# Altium schematic symbol library kmilo17pet-TI_LDO_0_350.SchLib: 1649 symbols (part 21 of 66)
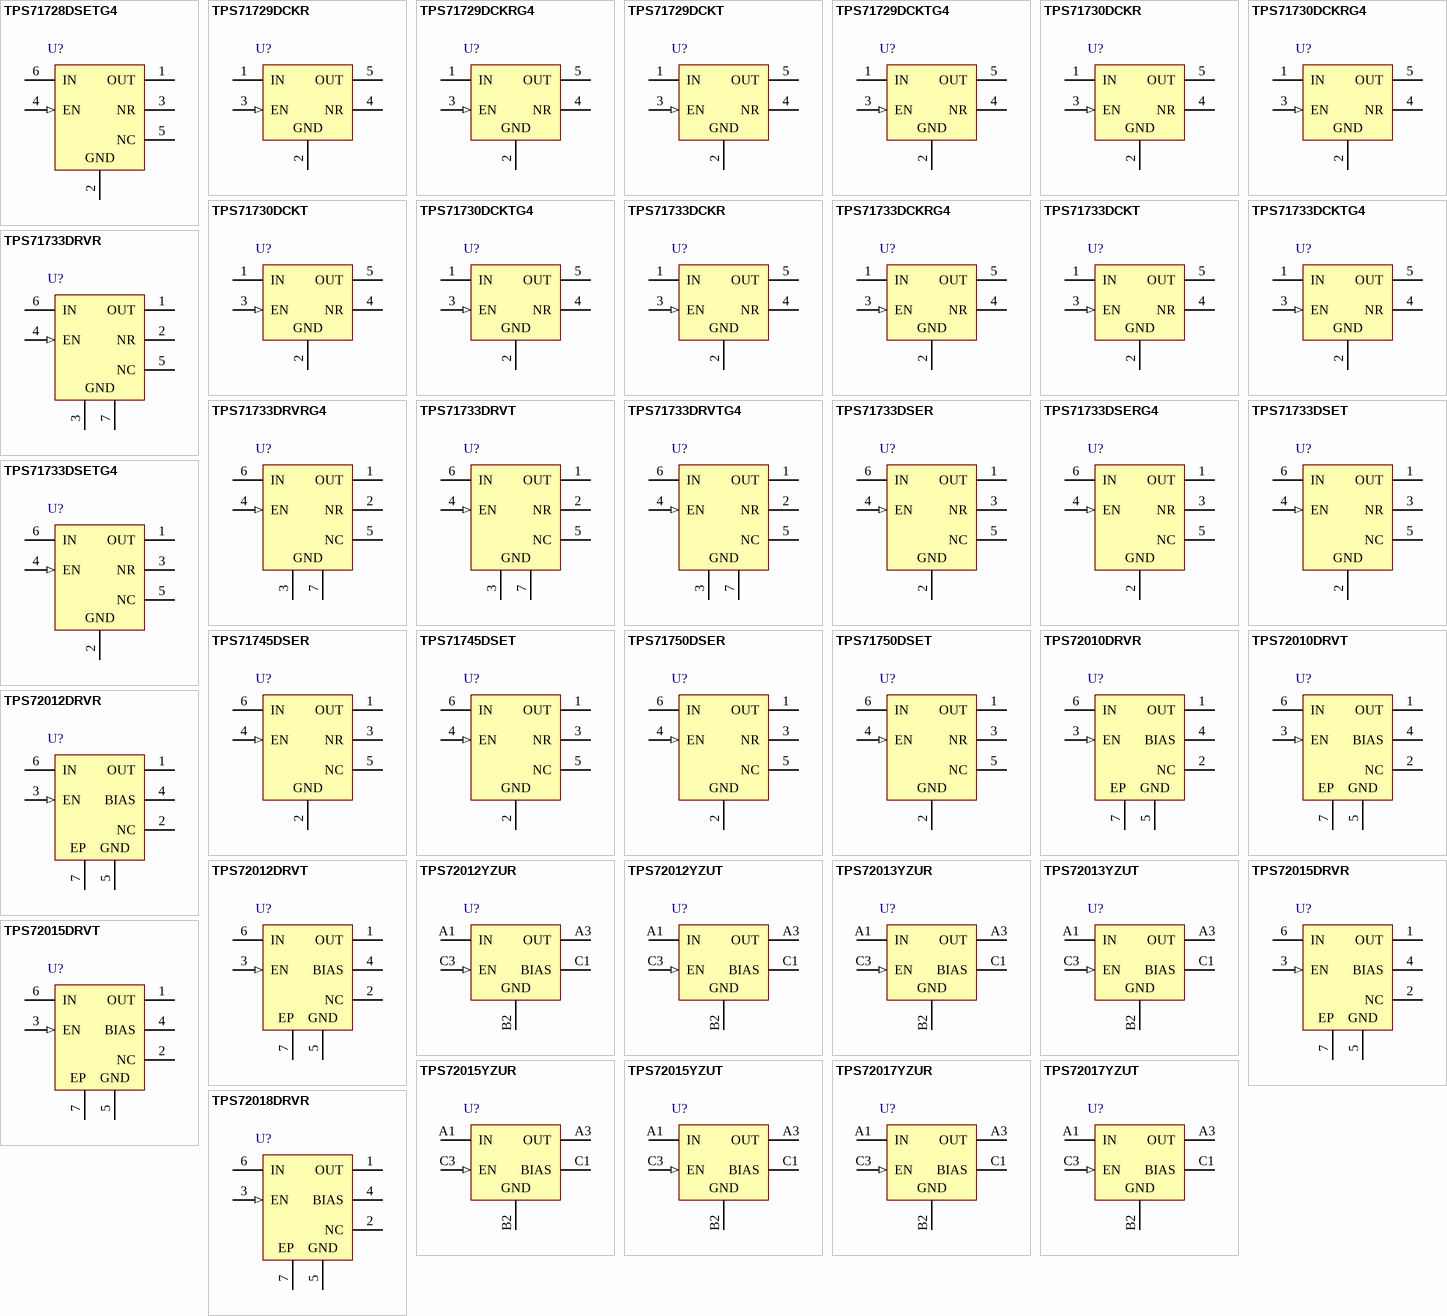
[diagram p62: symbols TPS71728DSETG4 to TPS72018DRVR]

## TPS71733DCKR
designator U?
Single Output High PSRR LDO, 150 mA, Fixed 3.3 V Output, 2.5 to 6.5 V Input, with Low IQ, 5-pin SC70 (DCK), -40 to 85 degC, Green (RoHS & no Sb/Br); Manufacturer: Texas Instruments; PartNumber: TPS71733DCKR; Accuracy(%): 3; Fixed Output Options(V): 3.3; Iout(Max)(A): 0.15; Iq(Typ)(mA): 0.05; SubFamily: Single Channel LDO; Vdo(Typ)(mV): 170; Vin(Max)(V): 6.5; Vin(Min)(V): 2.5; DatasheetVersion: SBVS068G; PackageVersion: 4093553-3/G; PackageReference: DCK5; PackageDescription: 5-Pin Plastic Small-Outline, Body 2 x 1.25 mm, Pitch 0.65 mm; Supplier 1: Digi-Key; Supplier Part Number 1: 296-19675-2-ND; Supplier 2: Digi-Key; Supplier Part Number 2: 296-19675-1-ND; Supplier 3: Digi-Key; Supplier Part Number 3: 296-19675-6-ND; Supplier 4: Farnell; Supplier Part Number 4: 2120472; Supplier 5: Newark; Supplier Part Number 5: 94T5104; Supplier 6: Newark; Supplier Part Number 6: 85K1732; Supplier 7: Mouser; Supplier Part Number 7: 595-TPS71733DCKR; Eco-Plan: Green (RoHS & no Sb/Br); Vout Adj(Max)(V): 3.3; Vout Adj(Min)(V): 3.3; Mounting Technology: Surface Mount; Code_JEDEC: MO-203; ComponentLink1Description: Manufacturer URL; ComponentLink1URL: http://www.ti.com/; ComponentLink2Description: Datasheet; ComponentLink2URL: http://www.ti.com/general/docs/lit/getliterature.tsp?genericPartNumber=TPS71733&fileType=pdf; ComponentLink3Description: Package Specification; ComponentLink3URL: http://www.ti.com/litv/pdf/mpds025f
footprint TI-DCK5_V (SOT23, 5-Leads, Body 2x1.25mm, Pitch 0.65mm)
pins: 1 IN (power) "Input supply.", 2 GND (power) "Ground.", 3 EN (in) "Driving the enable pin (EN) high turns on the regulator .Driving this pin low puts the regulator into shutdown mode.EN can be connected to IN if not used.", 4 NR "Fixed voltage versions only; connecting an external capacitor to this pin bypasses noise generated by the internal bandgap. This capacitor allows output noise to be reduced to very low levels.", 5 OUT (power) "Output for the regulator. A small capacitor (total typical capacitance >= 2.0uF ceramic) is needed from this pin to ground to assure stability."

## TPS71733DCKRG4
designator U?
Single Output High PSRR LDO, 150 mA, Fixed 3.3 V Output, 2.5 to 6.5 V Input, with Low IQ, 5-pin SC70 (DCK), -40 to 85 degC, Green (RoHS & no Sb/Br); Manufacturer: Texas Instruments; PartNumber: TPS71733DCKRG4; Accuracy(%): 3; Fixed Output Options(V): 3.3; Iout(Max)(A): 0.15; Iq(Typ)(mA): 0.05; SubFamily: Single Channel LDO; Vdo(Typ)(mV): 170; Vin(Max)(V): 6.5; Vin(Min)(V): 2.5; DatasheetVersion: SBVS068G; PackageVersion: 4093553-3/G; PackageReference: DCK5; PackageDescription: 5-Pin Plastic Small-Outline, Body 2 x 1.25 mm, Pitch 0.65 mm; Supplier 1: Digi-Key; Supplier Part Number 1: TPS71733DCKRG4-ND; Supplier 2: Mouser; Supplier Part Number 2: 595-TPS71733DCKRG4; Eco-Plan: Green (RoHS & no Sb/Br); Vout Adj(Max)(V): 3.3; Vout Adj(Min)(V): 3.3; Mounting Technology: Surface Mount; Code_JEDEC: MO-203; ComponentLink1Description: Manufacturer URL; ComponentLink1URL: http://www.ti.com/; ComponentLink2Description: Datasheet; ComponentLink2URL: http://www.ti.com/general/docs/lit/getliterature.tsp?genericPartNumber=TPS71733&fileType=pdf; ComponentLink3Description: Package Specification; ComponentLink3URL: http://www.ti.com/litv/pdf/mpds025f
footprint TI-DCK5_V (SOT23, 5-Leads, Body 2x1.25mm, Pitch 0.65mm)
pins: 1 IN (power) "Input supply.", 2 GND (power) "Ground.", 3 EN (in) "Driving the enable pin (EN) high turns on the regulator .Driving this pin low puts the regulator into shutdown mode.EN can be connected to IN if not used.", 4 NR "Fixed voltage versions only; connecting an external capacitor to this pin bypasses noise generated by the internal bandgap. This capacitor allows output noise to be reduced to very low levels.", 5 OUT (power) "Output for the regulator. A small capacitor (total typical capacitance >= 2.0uF ceramic) is needed from this pin to ground to assure stability."

## TPS71733DCKT
designator U?
Single Output High PSRR LDO, 150 mA, Fixed 3.3 V Output, 2.5 to 6.5 V Input, with Low IQ, 5-pin SC70 (DCK), -40 to 85 degC, Green (RoHS & no Sb/Br); Manufacturer: Texas Instruments; PartNumber: TPS71733DCKT; Accuracy(%): 3; Fixed Output Options(V): 3.3; Iout(Max)(A): 0.15; Iq(Typ)(mA): 0.05; SubFamily: Single Channel LDO; Vdo(Typ)(mV): 170; Vin(Max)(V): 6.5; Vin(Min)(V): 2.5; DatasheetVersion: SBVS068G; PackageVersion: 4093553-3/G; PackageReference: DCK5; PackageDescription: 5-Pin Plastic Small-Outline, Body 2 x 1.25 mm, Pitch 0.65 mm; Supplier 1: Digi-Key; Supplier Part Number 1: 296-27047-2-ND; Supplier 2: Digi-Key; Supplier Part Number 2: 296-27047-1-ND; Supplier 3: Digi-Key; Supplier Part Number 3: 296-27047-6-ND; Supplier 4: Newark; Supplier Part Number 4: 85K1734; Supplier 5: Mouser; Supplier Part Number 5: 595-TPS71733DCKT; Eco-Plan: Green (RoHS & no Sb/Br); Vout Adj(Max)(V): 3.3; Vout Adj(Min)(V): 3.3; Mounting Technology: Surface Mount; Code_JEDEC: MO-203; ComponentLink1Description: Manufacturer URL; ComponentLink1URL: http://www.ti.com/; ComponentLink2Description: Datasheet; ComponentLink2URL: http://www.ti.com/general/docs/lit/getliterature.tsp?genericPartNumber=TPS71733&fileType=pdf; ComponentLink3Description: Package Specification; ComponentLink3URL: http://www.ti.com/litv/pdf/mpds025f
footprint TI-DCK5_V (SOT23, 5-Leads, Body 2x1.25mm, Pitch 0.65mm)
pins: 1 IN (power) "Input supply.", 2 GND (power) "Ground.", 3 EN (in) "Driving the enable pin (EN) high turns on the regulator .Driving this pin low puts the regulator into shutdown mode.EN can be connected to IN if not used.", 4 NR "Fixed voltage versions only; connecting an external capacitor to this pin bypasses noise generated by the internal bandgap. This capacitor allows output noise to be reduced to very low levels.", 5 OUT (power) "Output for the regulator. A small capacitor (total typical capacitance >= 2.0uF ceramic) is needed from this pin to ground to assure stability."

## TPS71733DCKTG4
designator U?
Single Output High PSRR LDO, 150 mA, Fixed 3.3 V Output, 2.5 to 6.5 V Input, with Low IQ, 5-pin SC70 (DCK), -40 to 85 degC, Green (RoHS & no Sb/Br); Manufacturer: Texas Instruments; PartNumber: TPS71733DCKTG4; Accuracy(%): 3; Fixed Output Options(V): 3.3; Iout(Max)(A): 0.15; Iq(Typ)(mA): 0.05; SubFamily: Single Channel LDO; Vdo(Typ)(mV): 170; Vin(Max)(V): 6.5; Vin(Min)(V): 2.5; DatasheetVersion: SBVS068G; PackageVersion: 4093553-3/G; PackageReference: DCK5; PackageDescription: 5-Pin Plastic Small-Outline, Body 2 x 1.25 mm, Pitch 0.65 mm; Supplier 1: Digi-Key; Supplier Part Number 1: TPS71733DCKTG4-ND; Supplier 2: Mouser; Supplier Part Number 2: 595-TPS71733DCKTG4; Eco-Plan: Green (RoHS & no Sb/Br); Vout Adj(Max)(V): 3.3; Vout Adj(Min)(V): 3.3; Mounting Technology: Surface Mount; Code_JEDEC: MO-203; ComponentLink1Description: Manufacturer URL; ComponentLink1URL: http://www.ti.com/; ComponentLink2Description: Datasheet; ComponentLink2URL: http://www.ti.com/general/docs/lit/getliterature.tsp?genericPartNumber=TPS71733&fileType=pdf; ComponentLink3Description: Package Specification; ComponentLink3URL: http://www.ti.com/litv/pdf/mpds025f
footprint TI-DCK5_V (SOT23, 5-Leads, Body 2x1.25mm, Pitch 0.65mm)
pins: 1 IN (power) "Input supply.", 2 GND (power) "Ground.", 3 EN (in) "Driving the enable pin (EN) high turns on the regulator .Driving this pin low puts the regulator into shutdown mode.EN can be connected to IN if not used.", 4 NR "Fixed voltage versions only; connecting an external capacitor to this pin bypasses noise generated by the internal bandgap. This capacitor allows output noise to be reduced to very low levels.", 5 OUT (power) "Output for the regulator. A small capacitor (total typical capacitance >= 2.0uF ceramic) is needed from this pin to ground to assure stability."

## TPS71733DRVR
designator U?
Single Output High PSRR LDO, 150 mA, Fixed 3.3 V Output, 2.5 to 6.5 V Input, with Low IQ, 6-pin SON (DRV), -40 to 85 degC, Green (RoHS & no Sb/Br); Manufacturer: Texas Instruments; PartNumber: TPS71733DRVR; Accuracy(%): 3; Fixed Output Options(V): 3.3; Iout(Max)(A): 0.15; Iq(Typ)(mA): 0.05; SubFamily: Single Channel LDO; Vdo(Typ)(mV): 170; Vin(Max)(V): 6.5; Vin(Min)(V): 2.5; DatasheetVersion: SBVS068G; PackageVersion: 4206925/E; PackageReference: DRV6-1600X1000TP; PackageDescription: 6-Pin Plastic Small Outline No-Lead, Body 2 x 2 mm, Pitch 0.65 mm; Supplier 1: Digi-Key; Supplier Part Number 1: TPS71733DRVR-ND; Supplier 2: Newark; Supplier Part Number 2: 10M0655; Supplier 3: Mouser; Supplier Part Number 3: 595-TPS71733DRVR; Eco-Plan: Green (RoHS & no Sb/Br); Vout Adj(Max)(V): 3.3; Vout Adj(Min)(V): 3.3; Mounting Technology: Surface Mount; ComponentLink1Description: Manufacturer URL; ComponentLink1URL: http://www.ti.com/; ComponentLink2Description: Datasheet; ComponentLink2URL: http://www.ti.com/general/docs/lit/getliterature.tsp?genericPartNumber=TPS71733&fileType=pdf; ComponentLink3Description: Package Specification; ComponentLink3URL: http://www.ti.com/litv/pdf/mpds216d
footprint TI-DRV6-1600X1000TP_V (SON, 6-Leads, Body 2x2mm, Pitch 0.65mm, Thermal Pad 1X1.6mm)
pins: 1 OUT (power) "Output of the regulator. A small capacitor (total typical capacitance >= 2.0uF ceramic) is needed from this pin to ground to assure stability.", 2 NR "Fixed voltage versions only; connecting an external capacitor to this pin bypasses noise generated by the internal bandgap. This allows output noise to be reduced to very low levels.", 3 GND (power) "Ground", 4 EN (in) "Driving the enable pin (EN) high turns on the regulator. Driving this pin low puts the regulator into shutdown mode. EN can be connected to IN if not used.", 5 NC "Not internally connected. This pin must either be left open, or tied to GND.", 6 IN (power) "Input supply.", 7 GND (power) "The pad must be tied to GND."

## TPS71733DRVRG4
designator U?
Single Output High PSRR LDO, 150 mA, Fixed 3.3 V Output, 2.5 to 6.5 V Input, with Low IQ, 6-pin SON (DRV), -40 to 85 degC, Green (RoHS & no Sb/Br); Manufacturer: Texas Instruments; PartNumber: TPS71733DRVRG4; Accuracy(%): 3; Fixed Output Options(V): 3.3; Iout(Max)(A): 0.15; Iq(Typ)(mA): 0.05; SubFamily: Single Channel LDO; Vdo(Typ)(mV): 170; Vin(Max)(V): 6.5; Vin(Min)(V): 2.5; DatasheetVersion: SBVS068G; PackageVersion: 4206925/E; PackageReference: DRV6-1600X1000TP; PackageDescription: 6-Pin Plastic Small Outline No-Lead, Body 2 x 2 mm, Pitch 0.65 mm; Supplier 1: Digi-Key; Supplier Part Number 1: TPS71733DRVRG4-ND; Supplier 2: Newark; Supplier Part Number 2: 10M0656; Supplier 3: Mouser; Supplier Part Number 3: 595-TPS71733DRVRG4; Eco-Plan: Green (RoHS & no Sb/Br); Vout Adj(Max)(V): 3.3; Vout Adj(Min)(V): 3.3; Mounting Technology: Surface Mount; ComponentLink1Description: Manufacturer URL; ComponentLink1URL: http://www.ti.com/; ComponentLink2Description: Datasheet; ComponentLink2URL: http://www.ti.com/general/docs/lit/getliterature.tsp?genericPartNumber=TPS71733&fileType=pdf; ComponentLink3Description: Package Specification; ComponentLink3URL: http://www.ti.com/litv/pdf/mpds216d
footprint TI-DRV6-1600X1000TP_V (SON, 6-Leads, Body 2x2mm, Pitch 0.65mm, Thermal Pad 1X1.6mm)
pins: 1 OUT (power) "Output of the regulator. A small capacitor (total typical capacitance >= 2.0uF ceramic) is needed from this pin to ground to assure stability.", 2 NR "Fixed voltage versions only; connecting an external capacitor to this pin bypasses noise generated by the internal bandgap. This allows output noise to be reduced to very low levels.", 3 GND (power) "Ground", 4 EN (in) "Driving the enable pin (EN) high turns on the regulator. Driving this pin low puts the regulator into shutdown mode. EN can be connected to IN if not used.", 5 NC "Not internally connected. This pin must either be left open, or tied to GND.", 6 IN (power) "Input supply.", 7 GND (power) "The pad must be tied to GND."

## TPS71733DRVT
designator U?
Single Output High PSRR LDO, 150 mA, Fixed 3.3 V Output, 2.5 to 6.5 V Input, with Low IQ, 6-pin SON (DRV), -40 to 85 degC, Green (RoHS & no Sb/Br); Manufacturer: Texas Instruments; PartNumber: TPS71733DRVT; Accuracy(%): 3; Fixed Output Options(V): 3.3; Iout(Max)(A): 0.15; Iq(Typ)(mA): 0.05; SubFamily: Single Channel LDO; Vdo(Typ)(mV): 170; Vin(Max)(V): 6.5; Vin(Min)(V): 2.5; DatasheetVersion: SBVS068G; PackageVersion: 4206925/E; PackageReference: DRV6-1600X1000TP; PackageDescription: 6-Pin Plastic Small Outline No-Lead, Body 2 x 2 mm, Pitch 0.65 mm; Supplier 1: Digi-Key; Supplier Part Number 1: 296-20695-2-ND; Supplier 2: Digi-Key; Supplier Part Number 2: 296-20695-1-ND; Supplier 3: Digi-Key; Supplier Part Number 3: 296-20695-6-ND; Supplier 4: Newark; Supplier Part Number 4: 10M0657; Supplier 5: Mouser; Supplier Part Number 5: 595-TPS71733DRVT; Eco-Plan: Green (RoHS & no Sb/Br); Vout Adj(Max)(V): 3.3; Vout Adj(Min)(V): 3.3; Mounting Technology: Surface Mount; ComponentLink1Description: Manufacturer URL; ComponentLink1URL: http://www.ti.com/; ComponentLink2Description: Datasheet; ComponentLink2URL: http://www.ti.com/general/docs/lit/getliterature.tsp?genericPartNumber=TPS71733&fileType=pdf; ComponentLink3Description: Package Specification; ComponentLink3URL: http://www.ti.com/litv/pdf/mpds216d
footprint TI-DRV6-1600X1000TP_V (SON, 6-Leads, Body 2x2mm, Pitch 0.65mm, Thermal Pad 1X1.6mm)
pins: 1 OUT (power) "Output of the regulator. A small capacitor (total typical capacitance >= 2.0uF ceramic) is needed from this pin to ground to assure stability.", 2 NR "Fixed voltage versions only; connecting an external capacitor to this pin bypasses noise generated by the internal bandgap. This allows output noise to be reduced to very low levels.", 3 GND (power) "Ground", 4 EN (in) "Driving the enable pin (EN) high turns on the regulator. Driving this pin low puts the regulator into shutdown mode. EN can be connected to IN if not used.", 5 NC "Not internally connected. This pin must either be left open, or tied to GND.", 6 IN (power) "Input supply.", 7 GND (power) "The pad must be tied to GND."

## TPS71733DRVTG4
designator U?
Single Output High PSRR LDO, 150 mA, Fixed 3.3 V Output, 2.5 to 6.5 V Input, with Low IQ, 6-pin SON (DRV), -40 to 85 degC, Green (RoHS & no Sb/Br); Manufacturer: Texas Instruments; PartNumber: TPS71733DRVTG4; Accuracy(%): 3; Fixed Output Options(V): 3.3; Iout(Max)(A): 0.15; Iq(Typ)(mA): 0.05; SubFamily: Single Channel LDO; Vdo(Typ)(mV): 170; Vin(Max)(V): 6.5; Vin(Min)(V): 2.5; DatasheetVersion: SBVS068G; PackageVersion: 4206925/E; PackageReference: DRV6-1600X1000TP; PackageDescription: 6-Pin Plastic Small Outline No-Lead, Body 2 x 2 mm, Pitch 0.65 mm; Supplier 1: Digi-Key; Supplier Part Number 1: TPS71733DRVTG4-ND; Supplier 2: Mouser; Supplier Part Number 2: 595-TPS71733DRVTG4; Eco-Plan: Green (RoHS & no Sb/Br); Vout Adj(Max)(V): 3.3; Vout Adj(Min)(V): 3.3; Mounting Technology: Surface Mount; ComponentLink1Description: Manufacturer URL; ComponentLink1URL: http://www.ti.com/; ComponentLink2Description: Datasheet; ComponentLink2URL: http://www.ti.com/general/docs/lit/getliterature.tsp?genericPartNumber=TPS71733&fileType=pdf; ComponentLink3Description: Package Specification; ComponentLink3URL: http://www.ti.com/litv/pdf/mpds216d
footprint TI-DRV6-1600X1000TP_V (SON, 6-Leads, Body 2x2mm, Pitch 0.65mm, Thermal Pad 1X1.6mm)
pins: 1 OUT (power) "Output of the regulator. A small capacitor (total typical capacitance >= 2.0uF ceramic) is needed from this pin to ground to assure stability.", 2 NR "Fixed voltage versions only; connecting an external capacitor to this pin bypasses noise generated by the internal bandgap. This allows output noise to be reduced to very low levels.", 3 GND (power) "Ground", 4 EN (in) "Driving the enable pin (EN) high turns on the regulator. Driving this pin low puts the regulator into shutdown mode. EN can be connected to IN if not used.", 5 NC "Not internally connected. This pin must either be left open, or tied to GND.", 6 IN (power) "Input supply.", 7 GND (power) "The pad must be tied to GND."

## TPS71733DSER
designator U?
Single Output High PSRR LDO, 150 mA, Fixed 3.3 V Output, 2.5 to 6.5 V Input, with Low IQ, 6-pin WSON (DSE), -40 to 125 degC, Green (RoHS & no Sb/Br); Manufacturer: Texas Instruments; PartNumber: TPS71733DSER; Accuracy(%): 3; Fixed Output Options(V): 3.3; Iout(Max)(A): 0.15; Iq(Typ)(mA): 0.05; SubFamily: Single Channel LDO; Vdo(Typ)(mV): 170; Vin(Max)(V): 6.5; Vin(Min)(V): 2.5; DatasheetVersion: SBVS068G; PackageVersion: 4207810/A; PackageReference: DSE6; PackageDescription: 6-Pin Plastic Small Outline, Body 1.5 x 1.5 mm, Pitch 0.5 mm; Supplier 1: Digi-Key; Supplier Part Number 1: 296-22054-2-ND; Supplier 2: Digi-Key; Supplier Part Number 2: 296-22054-1-ND; Supplier 3: Digi-Key; Supplier Part Number 3: 296-22054-6-ND; Supplier 4: Newark; Supplier Part Number 4: 53M4005; Supplier 5: Mouser; Supplier Part Number 5: 595-TPS71733DSER; Eco-Plan: Green (RoHS & no Sb/Br); Vout Adj(Max)(V): 3.3; Vout Adj(Min)(V): 3.3; Mounting Technology: Surface Mount; ComponentLink1Description: Manufacturer URL; ComponentLink1URL: http://www.ti.com/; ComponentLink2Description: Datasheet; ComponentLink2URL: http://www.ti.com/general/docs/lit/getliterature.tsp?genericPartNumber=TPS71733&fileType=pdf; ComponentLink3Description: Package Specification; ComponentLink3URL: http://www.ti.com/litv/pdf/mpds287
footprint TI-DSE6_V (SON, 6-Leads, Body 1.5x1.5mm, Pitch 0.5mm)
pins: 1 OUT (power) "This is the regulated output voltage. A small capacitor is needed from this pin to ground to assure stability; a 1.0µF ceramic capacitor is adequate", 2 GND (power) "Ground", 3 NR "Fixed voltage versions only. An external capacitor connected to this terminal bypasses noise generated by the internal bandgap, lowering output noise", 4 EN (in) "Driving the enable pin (EN) high turns on the regulator. Driving this pin low puts the regulator into standby mode, thereby reducing operating current", 5 NC "Not connected. This pin can be tied to ground to improve thermal dissipation", 6 IN (power) "Input to the device"

## TPS71733DSERG4
designator U?
Single Output High PSRR LDO, 150 mA, Fixed 3.3 V Output, 2.5 to 6.5 V Input, with Low IQ, 6-pin WSON (DSE), -40 to 125 degC, Green (RoHS & no Sb/Br); Manufacturer: Texas Instruments; PartNumber: TPS71733DSERG4; Accuracy(%): 3; Fixed Output Options(V): 3.3; Iout(Max)(A): 0.15; Iq(Typ)(mA): 0.05; SubFamily: Single Channel LDO; Vdo(Typ)(mV): 170; Vin(Max)(V): 6.5; Vin(Min)(V): 2.5; DatasheetVersion: SBVS068G; PackageVersion: 4207810/A; PackageReference: DSE6; PackageDescription: 6-Pin Plastic Small Outline, Body 1.5 x 1.5 mm, Pitch 0.5 mm; Supplier 1: Digi-Key; Supplier Part Number 1: TPS71733DSERG4-ND; Supplier 2: Newark; Supplier Part Number 2: 60M1811; Supplier 3: Mouser; Supplier Part Number 3: 595-TPS71733DSERG4; Eco-Plan: Green (RoHS & no Sb/Br); Vout Adj(Max)(V): 3.3; Vout Adj(Min)(V): 3.3; Mounting Technology: Surface Mount; ComponentLink1Description: Manufacturer URL; ComponentLink1URL: http://www.ti.com/; ComponentLink2Description: Datasheet; ComponentLink2URL: http://www.ti.com/general/docs/lit/getliterature.tsp?genericPartNumber=TPS71733&fileType=pdf; ComponentLink3Description: Package Specification; ComponentLink3URL: http://www.ti.com/litv/pdf/mpds287
footprint TI-DSE6_V (SON, 6-Leads, Body 1.5x1.5mm, Pitch 0.5mm)
pins: 1 OUT (power) "This is the regulated output voltage. A small capacitor is needed from this pin to ground to assure stability; a 1.0µF ceramic capacitor is adequate", 2 GND (power) "Ground", 3 NR "Fixed voltage versions only. An external capacitor connected to this terminal bypasses noise generated by the internal bandgap, lowering output noise", 4 EN (in) "Driving the enable pin (EN) high turns on the regulator. Driving this pin low puts the regulator into standby mode, thereby reducing operating current", 5 NC "Not connected. This pin can be tied to ground to improve thermal dissipation", 6 IN (power) "Input to the device"

## TPS71733DSET
designator U?
Single Output High PSRR LDO, 150 mA, Fixed 3.3 V Output, 2.5 to 6.5 V Input, with Low IQ, 6-pin WSON (DSE), -40 to 125 degC, Green (RoHS & no Sb/Br); Manufacturer: Texas Instruments; PartNumber: TPS71733DSET; Accuracy(%): 3; Fixed Output Options(V): 3.3; Iout(Max)(A): 0.15; Iq(Typ)(mA): 0.05; SubFamily: Single Channel LDO; Vdo(Typ)(mV): 170; Vin(Max)(V): 6.5; Vin(Min)(V): 2.5; DatasheetVersion: SBVS068G; PackageVersion: 4207810/A; PackageReference: DSE6; PackageDescription: 6-Pin Plastic Small Outline, Body 1.5 x 1.5 mm, Pitch 0.5 mm; Supplier 1: Digi-Key; Supplier Part Number 1: 296-32543-2-ND; Supplier 2: Digi-Key; Supplier Part Number 2: 296-32543-1-ND; Supplier 3: Digi-Key; Supplier Part Number 3: 296-32543-6-ND; Supplier 4: Newark; Supplier Part Number 4: 53M4006; Supplier 5: Mouser; Supplier Part Number 5: 595-TPS71733DSET; Eco-Plan: Green (RoHS & no Sb/Br); Vout Adj(Max)(V): 3.3; Vout Adj(Min)(V): 3.3; Mounting Technology: Surface Mount; ComponentLink1Description: Manufacturer URL; ComponentLink1URL: http://www.ti.com/; ComponentLink2Description: Datasheet; ComponentLink2URL: http://www.ti.com/general/docs/lit/getliterature.tsp?genericPartNumber=TPS71733&fileType=pdf; ComponentLink3Description: Package Specification; ComponentLink3URL: http://www.ti.com/litv/pdf/mpds287
footprint TI-DSE6_V (SON, 6-Leads, Body 1.5x1.5mm, Pitch 0.5mm)
pins: 1 OUT (power) "This is the regulated output voltage. A small capacitor is needed from this pin to ground to assure stability; a 1.0µF ceramic capacitor is adequate", 2 GND (power) "Ground", 3 NR "Fixed voltage versions only. An external capacitor connected to this terminal bypasses noise generated by the internal bandgap, lowering output noise", 4 EN (in) "Driving the enable pin (EN) high turns on the regulator. Driving this pin low puts the regulator into standby mode, thereby reducing operating current", 5 NC "Not connected. This pin can be tied to ground to improve thermal dissipation", 6 IN (power) "Input to the device"

## TPS71733DSETG4
designator U?
Single Output High PSRR LDO, 150 mA, Fixed 3.3 V Output, 2.5 to 6.5 V Input, with Low IQ, 6-pin WSON (DSE), -40 to 125 degC, Green (RoHS & no Sb/Br); Manufacturer: Texas Instruments; PartNumber: TPS71733DSETG4; Accuracy(%): 3; Fixed Output Options(V): 3.3; Iout(Max)(A): 0.15; Iq(Typ)(mA): 0.05; SubFamily: Single Channel LDO; Vdo(Typ)(mV): 170; Vin(Max)(V): 6.5; Vin(Min)(V): 2.5; DatasheetVersion: SBVS068G; PackageVersion: 4207810/A; PackageReference: DSE6; PackageDescription: 6-Pin Plastic Small Outline, Body 1.5 x 1.5 mm, Pitch 0.5 mm; Supplier 1: Digi-Key; Supplier Part Number 1: TPS71733DSETG4-ND; Supplier 2: Newark; Supplier Part Number 2: 60M1812; Supplier 3: Mouser; Supplier Part Number 3: 595-TPS71733DSETG4; Eco-Plan: Green (RoHS & no Sb/Br); Vout Adj(Max)(V): 3.3; Vout Adj(Min)(V): 3.3; Mounting Technology: Surface Mount; ComponentLink1Description: Manufacturer URL; ComponentLink1URL: http://www.ti.com/; ComponentLink2Description: Datasheet; ComponentLink2URL: http://www.ti.com/general/docs/lit/getliterature.tsp?genericPartNumber=TPS71733&fileType=pdf; ComponentLink3Description: Package Specification; ComponentLink3URL: http://www.ti.com/litv/pdf/mpds287
footprint TI-DSE6_V (SON, 6-Leads, Body 1.5x1.5mm, Pitch 0.5mm)
pins: 1 OUT (power) "This is the regulated output voltage. A small capacitor is needed from this pin to ground to assure stability; a 1.0µF ceramic capacitor is adequate", 2 GND (power) "Ground", 3 NR "Fixed voltage versions only. An external capacitor connected to this terminal bypasses noise generated by the internal bandgap, lowering output noise", 4 EN (in) "Driving the enable pin (EN) high turns on the regulator. Driving this pin low puts the regulator into standby mode, thereby reducing operating current", 5 NC "Not connected. This pin can be tied to ground to improve thermal dissipation", 6 IN (power) "Input to the device"

## TPS71745DSER
designator U?
Single Output High PSRR LDO, 150 mA, Fixed 4.5 V Output, 2.5 to 6.5 V Input, with Low IQ, 6-pin WSON (DSE), -40 to 125 degC, Green (RoHS & no Sb/Br); Manufacturer: Texas Instruments; PartNumber: TPS71745DSER; Accuracy(%): 3; Fixed Output Options(V): 4.5; Iout(Max)(A): 0.15; Iq(Typ)(mA): 0.05; SubFamily: Single Channel LDO; Vdo(Typ)(mV): 170; Vin(Max)(V): 6.5; Vin(Min)(V): 2.5; DatasheetVersion: SBVS068G; PackageVersion: 4207810/A; PackageReference: DSE6; PackageDescription: 6-Pin Plastic Small Outline, Body 1.5 x 1.5 mm, Pitch 0.5 mm; Supplier 1: Digi-Key; Supplier Part Number 1: 296-24285-2-ND; Supplier 2: Digi-Key; Supplier Part Number 2: 296-24285-1-ND; Supplier 3: Digi-Key; Supplier Part Number 3: 296-24285-6-ND; Supplier 4: Mouser; Supplier Part Number 4: 595-TPS71745DSER; Eco-Plan: Green (RoHS & no Sb/Br); Vout Adj(Max)(V): 4.5; Vout Adj(Min)(V): 4.5; Mounting Technology: Surface Mount; ComponentLink1Description: Manufacturer URL; ComponentLink1URL: http://www.ti.com/; ComponentLink2Description: Datasheet; ComponentLink2URL: http://www.ti.com/general/docs/lit/getliterature.tsp?genericPartNumber=TPS71745&fileType=pdf; ComponentLink3Description: Package Specification; ComponentLink3URL: http://www.ti.com/litv/pdf/mpds287
footprint TI-DSE6_V (SON, 6-Leads, Body 1.5x1.5mm, Pitch 0.5mm)
pins: 1 OUT (power) "This is the regulated output voltage. A small capacitor is needed from this pin to ground to assure stability; a 1.0µF ceramic capacitor is adequate", 2 GND (power) "Ground", 3 NR "Fixed voltage versions only. An external capacitor connected to this terminal bypasses noise generated by the internal bandgap, lowering output noise", 4 EN (in) "Driving the enable pin (EN) high turns on the regulator. Driving this pin low puts the regulator into standby mode, thereby reducing operating current", 5 NC "Not connected. This pin can be tied to ground to improve thermal dissipation", 6 IN (power) "Input to the device"

## TPS71745DSET
designator U?
Single Output High PSRR LDO, 150 mA, Fixed 4.5 V Output, 2.5 to 6.5 V Input, with Low IQ, 6-pin WSON (DSE), -40 to 125 degC, Green (RoHS & no Sb/Br); Manufacturer: Texas Instruments; PartNumber: TPS71745DSET; Accuracy(%): 3; Fixed Output Options(V): 4.5; Iout(Max)(A): 0.15; Iq(Typ)(mA): 0.05; SubFamily: Single Channel LDO; Vdo(Typ)(mV): 170; Vin(Max)(V): 6.5; Vin(Min)(V): 2.5; DatasheetVersion: SBVS068G; PackageVersion: 4207810/A; PackageReference: DSE6; PackageDescription: 6-Pin Plastic Small Outline, Body 1.5 x 1.5 mm, Pitch 0.5 mm; Supplier 1: Digi-Key; Supplier Part Number 1: TPS71745DSET-ND; Supplier 2: Newark; Supplier Part Number 2: 09R6701; Supplier 3: Mouser; Supplier Part Number 3: 595-TPS71745DSET; Eco-Plan: Green (RoHS & no Sb/Br); Vout Adj(Max)(V): 4.5; Vout Adj(Min)(V): 4.5; Mounting Technology: Surface Mount; ComponentLink1Description: Manufacturer URL; ComponentLink1URL: http://www.ti.com/; ComponentLink2Description: Datasheet; ComponentLink2URL: http://www.ti.com/general/docs/lit/getliterature.tsp?genericPartNumber=TPS71745&fileType=pdf; ComponentLink3Description: Package Specification; ComponentLink3URL: http://www.ti.com/litv/pdf/mpds287
footprint TI-DSE6_V (SON, 6-Leads, Body 1.5x1.5mm, Pitch 0.5mm)
pins: 1 OUT (power) "This is the regulated output voltage. A small capacitor is needed from this pin to ground to assure stability; a 1.0µF ceramic capacitor is adequate", 2 GND (power) "Ground", 3 NR "Fixed voltage versions only. An external capacitor connected to this terminal bypasses noise generated by the internal bandgap, lowering output noise", 4 EN (in) "Driving the enable pin (EN) high turns on the regulator. Driving this pin low puts the regulator into standby mode, thereby reducing operating current", 5 NC "Not connected. This pin can be tied to ground to improve thermal dissipation", 6 IN (power) "Input to the device"

## TPS71750DSER
designator U?
Single Output High PSRR LDO, 150 mA, Fixed 5 V Output, 2.5 to 6.5 V Input, with Low IQ, 6-pin WSON (DSE), -40 to 125 degC, Green (RoHS & no Sb/Br); Manufacturer: Texas Instruments; PartNumber: TPS71750DSER; Accuracy(%): 3; Fixed Output Options(V): 5; Iout(Max)(A): 0.15; Iq(Typ)(mA): 0.05; SubFamily: Single Channel LDO; Vdo(Typ)(mV): 170; Vin(Max)(V): 6.5; Vin(Min)(V): 2.5; DatasheetVersion: SBVS068G; PackageVersion: 4207810/A; PackageReference: DSE6; PackageDescription: 6-Pin Plastic Small Outline, Body 1.5 x 1.5 mm, Pitch 0.5 mm; Supplier 1: Digi-Key; Supplier Part Number 1: 296-25361-2-ND; Supplier 2: Digi-Key; Supplier Part Number 2: 296-25361-1-ND; Supplier 3: Digi-Key; Supplier Part Number 3: 296-25361-6-ND; Supplier 4: Newark; Supplier Part Number 4: 55R7648; Supplier 5: Mouser; Supplier Part Number 5: 595-TPS71750DSER; Eco-Plan: Green (RoHS & no Sb/Br); Vout Adj(Max)(V): 5; Vout Adj(Min)(V): 5; Mounting Technology: Surface Mount; ComponentLink1Description: Manufacturer URL; ComponentLink1URL: http://www.ti.com/; ComponentLink2Description: Datasheet; ComponentLink2URL: http://www.ti.com/general/docs/lit/getliterature.tsp?genericPartNumber=TPS71750&fileType=pdf; ComponentLink3Description: Package Specification; ComponentLink3URL: http://www.ti.com/litv/pdf/mpds287
footprint TI-DSE6_V (SON, 6-Leads, Body 1.5x1.5mm, Pitch 0.5mm)
pins: 1 OUT (power) "This is the regulated output voltage. A small capacitor is needed from this pin to ground to assure stability; a 1.0µF ceramic capacitor is adequate", 2 GND (power) "Ground", 3 NR "Fixed voltage versions only. An external capacitor connected to this terminal bypasses noise generated by the internal bandgap, lowering output noise", 4 EN (in) "Driving the enable pin (EN) high turns on the regulator. Driving this pin low puts the regulator into standby mode, thereby reducing operating current", 5 NC "Not connected. This pin can be tied to ground to improve thermal dissipation", 6 IN (power) "Input to the device"

## TPS71750DSET
designator U?
Single Output High PSRR LDO, 150 mA, Fixed 5 V Output, 2.5 to 6.5 V Input, with Low IQ, 6-pin WSON (DSE), -40 to 125 degC, Green (RoHS & no Sb/Br); Manufacturer: Texas Instruments; PartNumber: TPS71750DSET; Accuracy(%): 3; Fixed Output Options(V): 5; Iout(Max)(A): 0.15; Iq(Typ)(mA): 0.05; SubFamily: Single Channel LDO; Vdo(Typ)(mV): 170; Vin(Max)(V): 6.5; Vin(Min)(V): 2.5; DatasheetVersion: SBVS068G; PackageVersion: 4207810/A; PackageReference: DSE6; PackageDescription: 6-Pin Plastic Small Outline, Body 1.5 x 1.5 mm, Pitch 0.5 mm; Supplier 1: Digi-Key; Supplier Part Number 1: 296-25447-2-ND; Supplier 2: Digi-Key; Supplier Part Number 2: 296-25447-1-ND; Supplier 3: Digi-Key; Supplier Part Number 3: 296-25447-6-ND; Supplier 4: Farnell; Supplier Part Number 4: 1782844; Supplier 5: Farnell; Supplier Part Number 5: 1782844RL; Supplier 6: Newark; Supplier Part Number 6: 51R6146; Supplier 7: Mouser; Supplier Part Number 7: 595-TPS71750DSET; Eco-Plan: Green (RoHS & no Sb/Br); Vout Adj(Max)(V): 5; Vout Adj(Min)(V): 5; Mounting Technology: Surface Mount; ComponentLink1Description: Manufacturer URL; ComponentLink1URL: http://www.ti.com/; ComponentLink2Description: Datasheet; ComponentLink2URL: http://www.ti.com/general/docs/lit/getliterature.tsp?genericPartNumber=TPS71750&fileType=pdf; ComponentLink3Description: Package Specification; ComponentLink3URL: http://www.ti.com/litv/pdf/mpds287
footprint TI-DSE6_V (SON, 6-Leads, Body 1.5x1.5mm, Pitch 0.5mm)
pins: 1 OUT (power) "This is the regulated output voltage. A small capacitor is needed from this pin to ground to assure stability; a 1.0µF ceramic capacitor is adequate", 2 GND (power) "Ground", 3 NR "Fixed voltage versions only. An external capacitor connected to this terminal bypasses noise generated by the internal bandgap, lowering output noise", 4 EN (in) "Driving the enable pin (EN) high turns on the regulator. Driving this pin low puts the regulator into standby mode, thereby reducing operating current", 5 NC "Not connected. This pin can be tied to ground to improve thermal dissipation", 6 IN (power) "Input to the device"

## TPS72010DRVR
designator U?
Single Output LDO, 300 mA, Fixed 1 V Output, 1.1 to 4.5 V Input, with Bias Pin, 6-pin SON (DRV), -40 to 125 degC, Green (RoHS & no Sb/Br); Manufacturer: Texas Instruments; PartNumber: TPS72010DRVR; Accuracy(%): 2; Fixed Output Options(V): 1; Iout(Max)(A): 0.3; Iq(Typ)(mA): 0.03; Rating: Catalog; SubFamily: Single Channel LDO; Vdo(Typ)(mV): 110; Vin(Max)(V): 4.5; Vin(Min)(V): 1.1; DatasheetVersion: SBVS100D; PackageVersion: 4206925/E; PackageReference: DRV6-1600X1000TP; PackageDescription: 6-Pin Plastic Small Outline No-Lead, Body 2 x 2 mm, Pitch 0.65 mm; Supplier 1: Digi-Key; Supplier Part Number 1: TPS72010DRVR-ND; Supplier 2: Newark; Supplier Part Number 2: 69R0447; Supplier 3: Mouser; Supplier Part Number 3: 595-TPS72010DRVR; Eco-Plan: Green (RoHS & no Sb/Br); Vout Adj(Max)(V): 1; Vout Adj(Min)(V): 1; Mounting Technology: Surface Mount; ComponentLink1Description: Manufacturer URL; ComponentLink1URL: http://www.ti.com/; ComponentLink2Description: Datasheet; ComponentLink2URL: http://www.ti.com/general/docs/lit/getliterature.tsp?genericPartNumber=TPS72010&fileType=pdf; ComponentLink3Description: Package Specification; ComponentLink3URL: http://www.ti.com/litv/pdf/mpds216d
footprint TI-DRV6-1600X1000TP_V (SON, 6-Leads, Body 2x2mm, Pitch 0.65mm, Thermal Pad 1X1.6mm)
pins: 1 OUT (power) "Output pin. A 2.2uF ceramic capacitor is connected from this pin to ground, for stability and to provide load transients.", 2 NC "No connection.", 3 EN (in) "Enable pin. A logic high signal on this pin turns the device on and regulates the voltage from IN to OUT. A logic low on this pin turns off the device.", 4 BIAS (power) "Bias supply pin. It is recommended that this input be bypassed with a ceramic capacitor to ground for better transient performance.", 5 GND (power) "Ground pin.", 6 IN (power) "Input pin. This pin can be a maximum of 4.5V; VIN must not exceed VBIAS. Bypass this input with a ceramic capacitor to ground.", 7 EP (power) "It is recommended that the SON package thermal pad be connected to ground."

## TPS72010DRVT
designator U?
Single Output LDO, 300 mA, Fixed 1 V Output, 1.1 to 4.5 V Input, with Bias Pin, 6-pin SON (DRV), -40 to 125 degC, Green (RoHS & no Sb/Br); Manufacturer: Texas Instruments; PartNumber: TPS72010DRVT; Accuracy(%): 2; Fixed Output Options(V): 1; Iout(Max)(A): 0.3; Iq(Typ)(mA): 0.03; Rating: Catalog; SubFamily: Single Channel LDO; Vdo(Typ)(mV): 110; Vin(Max)(V): 4.5; Vin(Min)(V): 1.1; DatasheetVersion: SBVS100D; PackageVersion: 4206925/E; PackageReference: DRV6-1600X1000TP; PackageDescription: 6-Pin Plastic Small Outline No-Lead, Body 2 x 2 mm, Pitch 0.65 mm; Supplier 1: Digi-Key; Supplier Part Number 1: 296-25806-2-ND; Supplier 2: Digi-Key; Supplier Part Number 2: 296-25806-1-ND; Supplier 3: Digi-Key; Supplier Part Number 3: 296-25806-6-ND; Supplier 4: Newark; Supplier Part Number 4: 69R0448; Supplier 5: Mouser; Supplier Part Number 5: 595-TPS72010DRVT; Eco-Plan: Green (RoHS & no Sb/Br); Vout Adj(Max)(V): 1; Vout Adj(Min)(V): 1; Mounting Technology: Surface Mount; ComponentLink1Description: Manufacturer URL; ComponentLink1URL: http://www.ti.com/; ComponentLink2Description: Datasheet; ComponentLink2URL: http://www.ti.com/general/docs/lit/getliterature.tsp?genericPartNumber=TPS72010&fileType=pdf; ComponentLink3Description: Package Specification; ComponentLink3URL: http://www.ti.com/litv/pdf/mpds216d
footprint TI-DRV6-1600X1000TP_V (SON, 6-Leads, Body 2x2mm, Pitch 0.65mm, Thermal Pad 1X1.6mm)
pins: 1 OUT (power) "Output pin. A 2.2uF ceramic capacitor is connected from this pin to ground, for stability and to provide load transients.", 2 NC "No connection.", 3 EN (in) "Enable pin. A logic high signal on this pin turns the device on and regulates the voltage from IN to OUT. A logic low on this pin turns off the device.", 4 BIAS (power) "Bias supply pin. It is recommended that this input be bypassed with a ceramic capacitor to ground for better transient performance.", 5 GND (power) "Ground pin.", 6 IN (power) "Input pin. This pin can be a maximum of 4.5V; VIN must not exceed VBIAS. Bypass this input with a ceramic capacitor to ground.", 7 EP (power) "It is recommended that the SON package thermal pad be connected to ground."

## TPS72012DRVR
designator U?
Single Output LDO, 300 mA, Fixed 1.2 V Output, 1.1 to 4.5 V Input, with Bias Pin, 6-pin SON (DRV), -40 to 125 degC, Green (RoHS & no Sb/Br); Manufacturer: Texas Instruments; PartNumber: TPS72012DRVR; Accuracy(%): 2; Fixed Output Options(V): 1.2; Iout(Max)(A): 0.3; Iq(Typ)(mA): 0.03; Rating: Catalog; SubFamily: Single Channel LDO; Vdo(Typ)(mV): 110; Vin(Max)(V): 4.5; Vin(Min)(V): 1.1; DatasheetVersion: SBVS100D; PackageVersion: 4206925/E; PackageReference: DRV6-1600X1000TP; PackageDescription: 6-Pin Plastic Small Outline No-Lead, Body 2 x 2 mm, Pitch 0.65 mm; Supplier 1: Digi-Key; Supplier Part Number 1: TPS72012DRVR-ND; Supplier 2: Newark; Supplier Part Number 2: 69R0449; Supplier 3: Mouser; Supplier Part Number 3: 595-TPS72012DRVR; Eco-Plan: Green (RoHS & no Sb/Br); Vout Adj(Max)(V): 1.2; Vout Adj(Min)(V): 1.2; Mounting Technology: Surface Mount; ComponentLink1Description: Manufacturer URL; ComponentLink1URL: http://www.ti.com/; ComponentLink2Description: Datasheet; ComponentLink2URL: http://www.ti.com/general/docs/lit/getliterature.tsp?genericPartNumber=TPS72012&fileType=pdf; ComponentLink3Description: Package Specification; ComponentLink3URL: http://www.ti.com/litv/pdf/mpds216d
footprint TI-DRV6-1600X1000TP_V (SON, 6-Leads, Body 2x2mm, Pitch 0.65mm, Thermal Pad 1X1.6mm)
pins: 1 OUT (power) "Output pin. A 2.2uF ceramic capacitor is connected from this pin to ground, for stability and to provide load transients.", 2 NC "No connection.", 3 EN (in) "Enable pin. A logic high signal on this pin turns the device on and regulates the voltage from IN to OUT. A logic low on this pin turns off the device.", 4 BIAS (power) "Bias supply pin. It is recommended that this input be bypassed with a ceramic capacitor to ground for better transient performance.", 5 GND (power) "Ground pin.", 6 IN (power) "Input pin. This pin can be a maximum of 4.5V; VIN must not exceed VBIAS. Bypass this input with a ceramic capacitor to ground.", 7 EP (power) "It is recommended that the SON package thermal pad be connected to ground."

## TPS72012DRVT
designator U?
Single Output LDO, 300 mA, Fixed 1.2 V Output, 1.1 to 4.5 V Input, with Bias Pin, 6-pin SON (DRV), -40 to 125 degC, Green (RoHS & no Sb/Br); Manufacturer: Texas Instruments; PartNumber: TPS72012DRVT; Accuracy(%): 2; Fixed Output Options(V): 1.2; Iout(Max)(A): 0.3; Iq(Typ)(mA): 0.03; Rating: Catalog; SubFamily: Single Channel LDO; Vdo(Typ)(mV): 110; Vin(Max)(V): 4.5; Vin(Min)(V): 1.1; DatasheetVersion: SBVS100D; PackageVersion: 4206925/E; PackageReference: DRV6-1600X1000TP; PackageDescription: 6-Pin Plastic Small Outline No-Lead, Body 2 x 2 mm, Pitch 0.65 mm; Supplier 1: Digi-Key; Supplier Part Number 1: 296-25807-2-ND; Supplier 2: Digi-Key; Supplier Part Number 2: 296-25807-1-ND; Supplier 3: Digi-Key; Supplier Part Number 3: 296-25807-6-ND; Supplier 4: Newark; Supplier Part Number 4: 69R0450; Supplier 5: Mouser; Supplier Part Number 5: 595-TPS72012DRVT; Eco-Plan: Green (RoHS & no Sb/Br); Vout Adj(Max)(V): 1.2; Vout Adj(Min)(V): 1.2; Mounting Technology: Surface Mount; ComponentLink1Description: Manufacturer URL; ComponentLink1URL: http://www.ti.com/; ComponentLink2Description: Datasheet; ComponentLink2URL: http://www.ti.com/general/docs/lit/getliterature.tsp?genericPartNumber=TPS72012&fileType=pdf; ComponentLink3Description: Package Specification; ComponentLink3URL: http://www.ti.com/litv/pdf/mpds216d
footprint TI-DRV6-1600X1000TP_V (SON, 6-Leads, Body 2x2mm, Pitch 0.65mm, Thermal Pad 1X1.6mm)
pins: 1 OUT (power) "Output pin. A 2.2uF ceramic capacitor is connected from this pin to ground, for stability and to provide load transients.", 2 NC "No connection.", 3 EN (in) "Enable pin. A logic high signal on this pin turns the device on and regulates the voltage from IN to OUT. A logic low on this pin turns off the device.", 4 BIAS (power) "Bias supply pin. It is recommended that this input be bypassed with a ceramic capacitor to ground for better transient performance.", 5 GND (power) "Ground pin.", 6 IN (power) "Input pin. This pin can be a maximum of 4.5V; VIN must not exceed VBIAS. Bypass this input with a ceramic capacitor to ground.", 7 EP (power) "It is recommended that the SON package thermal pad be connected to ground."

## TPS72012YZUR
designator U?
Single Output LDO, 300 mA, Fixed 1.2 V Output, 1.1 to 4.5 V Input, with Bias Pin, 5-pin DSBGA (YZU), -40 to 125 degC, Green (RoHS & no Sb/Br); Manufacturer: Texas Instruments; PartNumber: TPS72012YZUR; Accuracy(%): 2; Fixed Output Options(V): 1.2; Iout(Max)(A): 0.3; Iq(Typ)(mA): 0.03; Rating: Catalog; SubFamily: Single Channel LDO; Vdo(Typ)(mV): 110; Vin(Max)(V): 4.5; Vin(Min)(V): 1.1; DatasheetVersion: SBVS100D; PackageVersion: 4205678/D; PackageReference: YZU5; PackageDescription: 5-Pin Silicon Grid Array, Body 1.332 x 0.964 mm, Pitch 0.25 mm; Supplier 1: Digi-Key; Supplier Part Number 1: TPS72012YZUR-ND; Supplier 2: Newark; Supplier Part Number 2: 25R0141; Supplier 3: Mouser; Supplier Part Number 3: 595-TPS72012YZUR; Eco-Plan: Green (RoHS & no Sb/Br); Vout Adj(Max)(V): 1.2; Vout Adj(Min)(V): 1.2; Mounting Technology: Surface Mount; ComponentLink1Description: Manufacturer URL; ComponentLink1URL: http://www.ti.com/; ComponentLink2Description: Datasheet; ComponentLink2URL: http://www.ti.com/general/docs/lit/getliterature.tsp?genericPartNumber=TPS72012&fileType=pdf; ComponentLink3Description: Package Specification; ComponentLink3URL: http://www.ti.com/litv/pdf/mpds018i
footprint TI-YZU5-1332X964DE (BGA, 5-Balls, Body 1.332x0.964mm, Pitch 0.25mm)
pins: A1 IN (power) "Input pin. This pin can be a maximum of 4.5V; VINmust not exceed VBIAS. Bypass this input with a ceramic capacitor to ground.", A3 OUT (power) "Output pin. A 2.2µF ceramic capacitor is connected from this pin to ground, for stability and to provide load transients.", B2 GND (power) "Ground pin.", C1 BIAS (power) "Bias supply pin. It is recommended that this input be bypassed with a ceramic capacitor to ground for better transient performance.", C3 EN (in) "Enable pin. A logic high signal on this pin turns the device on and regulates the voltage from IN to OUT. A logic low on this pin turns off the device."

## TPS72012YZUT
designator U?
Single Output LDO, 300 mA, Fixed 1.2 V Output, 1.1 to 4.5 V Input, with Bias Pin, 5-pin DSBGA (YZU), -40 to 125 degC, Green (RoHS & no Sb/Br); Manufacturer: Texas Instruments; PartNumber: TPS72012YZUT; Accuracy(%): 2; Fixed Output Options(V): 1.2; Iout(Max)(A): 0.3; Iq(Typ)(mA): 0.03; Rating: Catalog; SubFamily: Single Channel LDO; Vdo(Typ)(mV): 110; Vin(Max)(V): 4.5; Vin(Min)(V): 1.1; DatasheetVersion: SBVS100D; PackageVersion: 4205678/D; PackageReference: YZU5; PackageDescription: 5-Pin Silicon Grid Array, Body 1.332 x 0.964 mm, Pitch 0.25 mm; Supplier 1: Digi-Key; Supplier Part Number 1: 296-24628-2-ND; Supplier 2: Digi-Key; Supplier Part Number 2: 296-24628-1-ND; Supplier 3: Digi-Key; Supplier Part Number 3: 296-24628-6-ND; Supplier 4: Newark; Supplier Part Number 4: 25R0142; Supplier 5: Mouser; Supplier Part Number 5: 595-TPS72012YZUT; Eco-Plan: Green (RoHS & no Sb/Br); Vout Adj(Max)(V): 1.2; Vout Adj(Min)(V): 1.2; Mounting Technology: Surface Mount; ComponentLink1Description: Manufacturer URL; ComponentLink1URL: http://www.ti.com/; ComponentLink2Description: Datasheet; ComponentLink2URL: http://www.ti.com/general/docs/lit/getliterature.tsp?genericPartNumber=TPS72012&fileType=pdf; ComponentLink3Description: Package Specification; ComponentLink3URL: http://www.ti.com/litv/pdf/mpds018i
footprint TI-YZU5-1332X964DE (BGA, 5-Balls, Body 1.332x0.964mm, Pitch 0.25mm)
pins: A1 IN (power) "Input pin. This pin can be a maximum of 4.5V; VINmust not exceed VBIAS. Bypass this input with a ceramic capacitor to ground.", A3 OUT (power) "Output pin. A 2.2µF ceramic capacitor is connected from this pin to ground, for stability and to provide load transients.", B2 GND (power) "Ground pin.", C1 BIAS (power) "Bias supply pin. It is recommended that this input be bypassed with a ceramic capacitor to ground for better transient performance.", C3 EN (in) "Enable pin. A logic high signal on this pin turns the device on and regulates the voltage from IN to OUT. A logic low on this pin turns off the device."

## TPS72013YZUR
designator U?
Single Output LDO, 300 mA, Fixed 1.3 V Output, 1.1 to 4.5 V Input, with Bias Pin, 5-pin DSBGA (YZU), -40 to 125 degC, Green (RoHS & no Sb/Br); Manufacturer: Texas Instruments; PartNumber: TPS72013YZUR; Accuracy(%): 2; Fixed Output Options(V): 1.3; Iout(Max)(A): 0.3; Iq(Typ)(mA): 0.03; Rating: Catalog; SubFamily: Single Channel LDO; Vdo(Typ)(mV): 110; Vin(Max)(V): 4.5; Vin(Min)(V): 1.1; DatasheetVersion: SBVS100D; PackageVersion: 4205678/D; PackageReference: YZU5; PackageDescription: 5-Pin Silicon Grid Array, Body 1.332 x 0.964 mm, Pitch 0.25 mm; Supplier 1: Digi-Key; Supplier Part Number 1: TPS72013YZUR-ND; Supplier 2: Mouser; Supplier Part Number 2: 595-TPS72013YZUR; Eco-Plan: Green (RoHS & no Sb/Br); Vout Adj(Max)(V): 1.3; Vout Adj(Min)(V): 1.3; Mounting Technology: Surface Mount; ComponentLink1Description: Manufacturer URL; ComponentLink1URL: http://www.ti.com/; ComponentLink2Description: Datasheet; ComponentLink2URL: http://www.ti.com/general/docs/lit/getliterature.tsp?genericPartNumber=TPS72013&fileType=pdf; ComponentLink3Description: Package Specification; ComponentLink3URL: http://www.ti.com/litv/pdf/mpds018i
footprint TI-YZU5-1332X964DE (BGA, 5-Balls, Body 1.332x0.964mm, Pitch 0.25mm)
pins: A1 IN (power) "Input pin. This pin can be a maximum of 4.5V; VINmust not exceed VBIAS. Bypass this input with a ceramic capacitor to ground.", A3 OUT (power) "Output pin. A 2.2µF ceramic capacitor is connected from this pin to ground, for stability and to provide load transients.", B2 GND (power) "Ground pin.", C1 BIAS (power) "Bias supply pin. It is recommended that this input be bypassed with a ceramic capacitor to ground for better transient performance.", C3 EN (in) "Enable pin. A logic high signal on this pin turns the device on and regulates the voltage from IN to OUT. A logic low on this pin turns off the device."

## TPS72013YZUT
designator U?
Single Output LDO, 300 mA, Fixed 1.3 V Output, 1.1 to 4.5 V Input, with Bias Pin, 5-pin DSBGA (YZU), -40 to 125 degC, Green (RoHS & no Sb/Br); Manufacturer: Texas Instruments; PartNumber: TPS72013YZUT; Accuracy(%): 2; Fixed Output Options(V): 1.3; Iout(Max)(A): 0.3; Iq(Typ)(mA): 0.03; Rating: Catalog; SubFamily: Single Channel LDO; Vdo(Typ)(mV): 110; Vin(Max)(V): 4.5; Vin(Min)(V): 1.1; DatasheetVersion: SBVS100D; PackageVersion: 4205678/D; PackageReference: YZU5; PackageDescription: 5-Pin Silicon Grid Array, Body 1.332 x 0.964 mm, Pitch 0.25 mm; Supplier 1: Digi-Key; Supplier Part Number 1: 296-23574-2-ND; Supplier 2: Digi-Key; Supplier Part Number 2: 296-23574-1-ND; Supplier 3: Digi-Key; Supplier Part Number 3: 296-23574-6-ND; Supplier 4: Newark; Supplier Part Number 4: 14N8524; Supplier 5: Mouser; Supplier Part Number 5: 595-TPS72013YZUT; Eco-Plan: Green (RoHS & no Sb/Br); Vout Adj(Max)(V): 1.3; Vout Adj(Min)(V): 1.3; Mounting Technology: Surface Mount; ComponentLink1Description: Manufacturer URL; ComponentLink1URL: http://www.ti.com/; ComponentLink2Description: Datasheet; ComponentLink2URL: http://www.ti.com/general/docs/lit/getliterature.tsp?genericPartNumber=TPS72013&fileType=pdf; ComponentLink3Description: Package Specification; ComponentLink3URL: http://www.ti.com/litv/pdf/mpds018i
footprint TI-YZU5-1332X964DE (BGA, 5-Balls, Body 1.332x0.964mm, Pitch 0.25mm)
pins: A1 IN (power) "Input pin. This pin can be a maximum of 4.5V; VINmust not exceed VBIAS. Bypass this input with a ceramic capacitor to ground.", A3 OUT (power) "Output pin. A 2.2µF ceramic capacitor is connected from this pin to ground, for stability and to provide load transients.", B2 GND (power) "Ground pin.", C1 BIAS (power) "Bias supply pin. It is recommended that this input be bypassed with a ceramic capacitor to ground for better transient performance.", C3 EN (in) "Enable pin. A logic high signal on this pin turns the device on and regulates the voltage from IN to OUT. A logic low on this pin turns off the device."